# Altium footprint library switch-dil.PCBLIB: 88 footprints (part 5 of 6)
Each footprint in its own frame and in the unit in brackets; x right, y up, seen from the top. Pads: shape width x height; smd on the part's side, far side on the other; paste and mask are expansions set on the pad; w line width, h text height; cw(c..) or ccw(c..) is an arc to the next point about the centre after c.
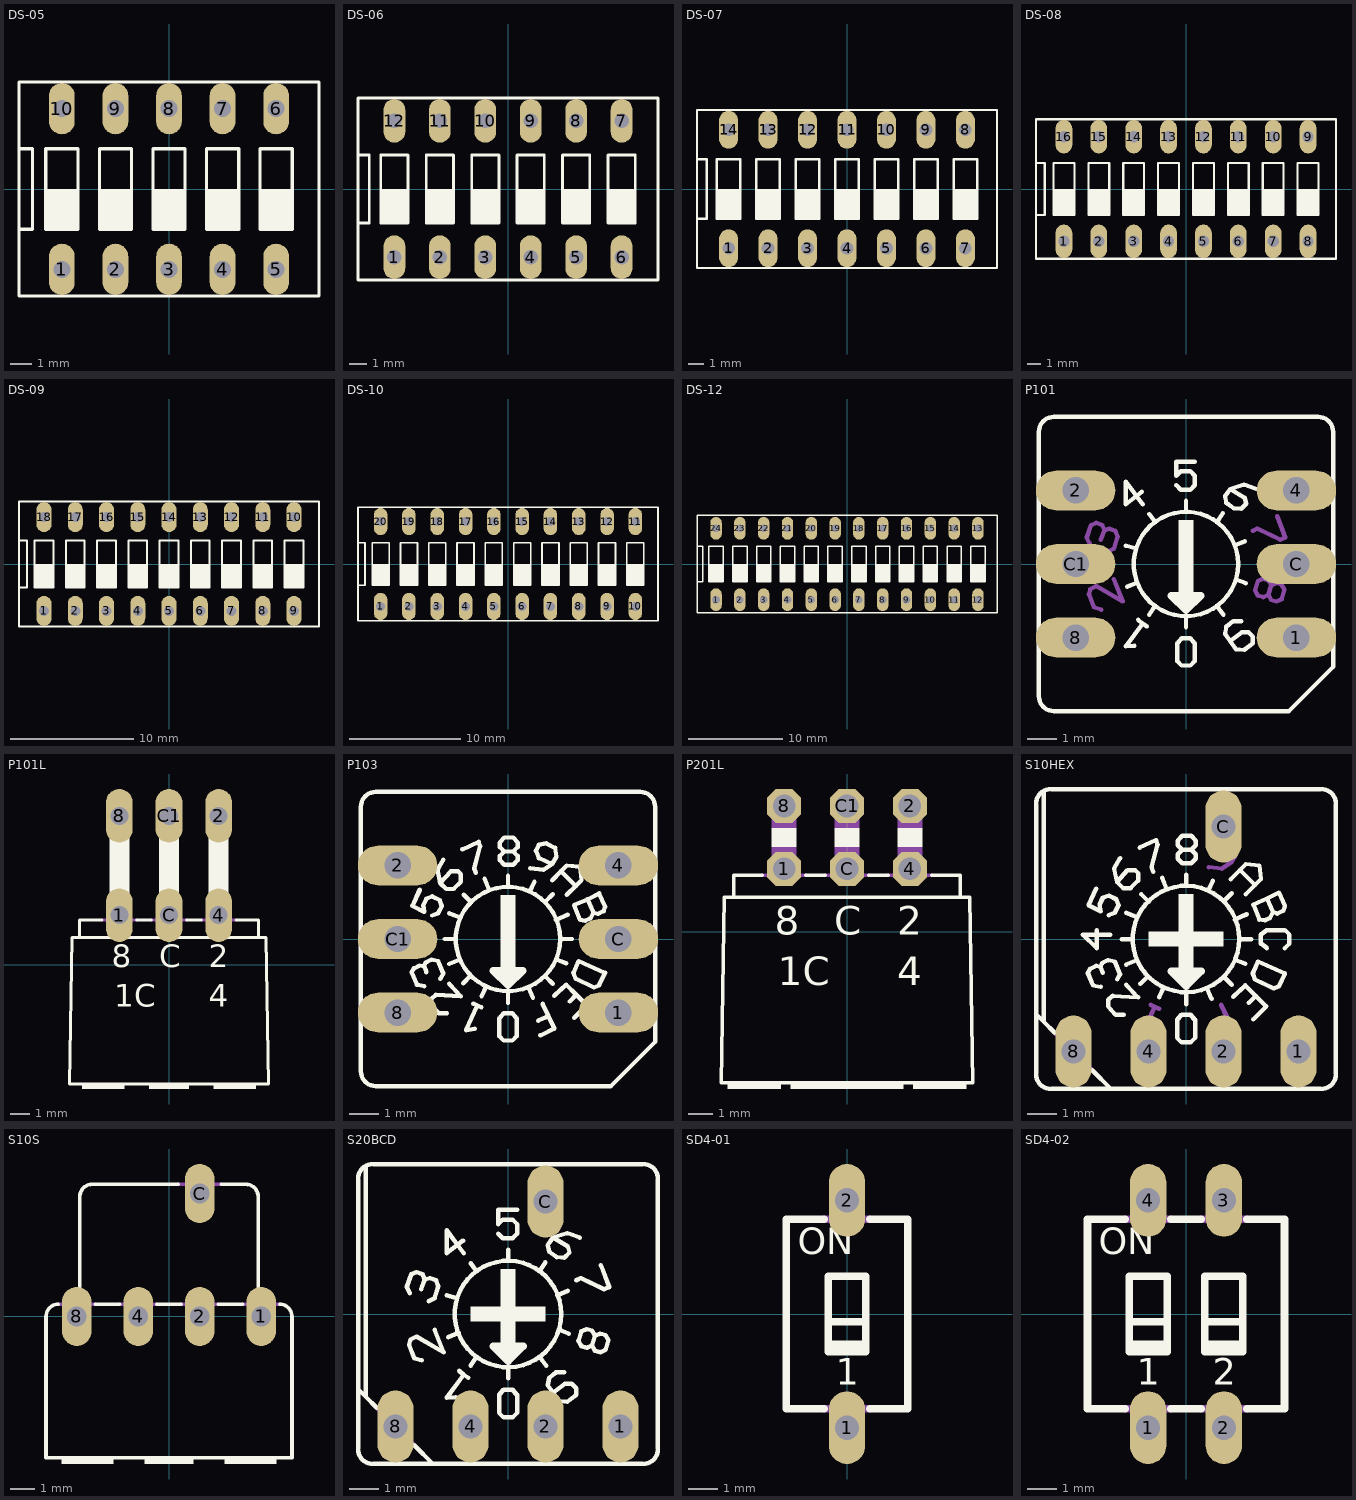
[diagram p4: the footprints below, top view; thin cyan lines are the x and y axes]

## DS-05 [mil]
pads (10):
  oval 48x96 hole 32: 1(-200,-150) 2(-100,-150) 3(0,-150) 4(100,-150) 5(200,-150) 6(200,150) 7(100,150) 8(0,150) 9(-100,150) 10(-200,150)
Top Overlay:
  rectangle: -230,-75 -170,0
  rectangle: -130,-75 -70,0
  rectangle: -30,-75 30,0
  rectangle: 70,-75 130,0
  rectangle: 170,-75 230,0
  lines w6: -280,-75 -280,75 ; -280,-75 -280,-200 280,-200 280,200 -280,200 -280,75 ; -280,-75 -255,-75 -255,75 -280,75 ; -230,-75 -230,75 -170,75 -170,-75 -230,-75 ; -130,-75 -130,75 -70,75 -70,-75 -130,-75 ; -30,-75 -30,75 30,75 30,-75 -30,-75 ; 70,-75 70,75 130,75 130,-75 70,-75 ; 170,-75 170,75 230,75 230,-75 170,-75
Mechanical 16:
  text "1" at -210,-135 h60.45
  text "2" at -120,-135 h60.45
  text "3" at -20,-135 h60.45
  text "4" at 80,-135 h60.45
  text "5" at 180,-135 h60.45
  text "ON" at -230,95 h60.45

## DS-06 [mil]
pads (12):
  oval 48x96 hole 32: 1(-250,-150) 2(-150,-150) 3(-50,-150) 4(50,-150) 5(150,-150) 6(250,-150) 7(250,150) 8(150,150) 9(50,150) 10(-50,150) 11(-150,150) 12(-250,150)
Top Overlay:
  rectangle: 220,-75 280,0
  rectangle: 120,-75 180,0
  rectangle: 20,-75 80,0
  rectangle: -80,-75 -20,0
  rectangle: -180,-75 -120,0
  rectangle: -280,-75 -220,0
  lines w6: -330,-75 -330,75 ; -330,-75 -330,-200 330,-200 330,200 -330,200 -330,75 ; -330,-75 -305,-75 -305,75 -330,75 ; -280,-75 -280,75 -220,75 -220,-75 -280,-75 ; -180,-75 -180,75 -120,75 -120,-75 -180,-75 ; -80,-75 -80,75 -20,75 -20,-75 -80,-75 ; 20,-75 20,75 80,75 80,-75 20,-75 ; 120,-75 120,75 180,75 180,-75 120,-75 ; 220,-75 220,75 280,75 280,-75 220,-75
Mechanical 16:
  text "1" at -265,-135 h60.45
  text "2" at -175,-135 h60.45
  text "3" at -75,-135 h60.45
  text "4" at 25,-135 h60.45
  text "5" at 125,-135 h60.45
  text "6" at 225,-135 h60.45
  text "ON" at -280,95 h60.45

## DS-07 [mil]
pads (14):
  oval 48x96 hole 32: 1(-300,-150) 2(-200,-150) 3(-100,-150) 4(0,-150) 5(100,-150) 6(200,-150) 7(300,-150) 8(300,150) 9(200,150) 10(100,150) 11(0,150) 12(-100,150) 13(-200,150) 14(-300,150)
Top Overlay:
  rectangle: 270,-75 330,0
  rectangle: 170,-75 230,0
  rectangle: 70,-75 130,0
  rectangle: -30,-75 30,0
  rectangle: -130,-75 -70,0
  rectangle: -230,-75 -170,0
  rectangle: -330,-75 -270,0
  lines w6: -380,-75 -380,75 ; -380,-75 -380,-200 380,-200 380,200 -380,200 -380,75 ; -380,-75 -355,-75 -355,75 -380,75 ; -330,-75 -330,75 -270,75 -270,-75 -330,-75 ; -230,-75 -230,75 -170,75 -170,-75 -230,-75 ; -130,-75 -130,75 -70,75 -70,-75 -130,-75 ; -30,-75 -30,75 30,75 30,-75 -30,-75 ; 70,-75 70,75 130,75 130,-75 70,-75 ; 170,-75 170,75 230,75 230,-75 170,-75 ; 270,-75 270,75 330,75 330,-75 270,-75
Mechanical 16:
  text "1" at -310,-135 h60.45
  text "2" at -220,-135 h60.45
  text "3" at -120,-135 h60.45
  text "4" at -20,-135 h60.45
  text "5" at 80,-135 h60.45
  text "6" at 180,-135 h60.45
  text "7" at 280,-135 h60.45
  text "ON" at -330,95 h60.45

## DS-08 [mil]
pads (16):
  oval 48x96 hole 32: 1(-350,-150) 2(-250,-150) 3(-150,-150) 4(-50,-150) 5(50,-150) 6(150,-150) 7(250,-150) 8(350,-150) 9(350,150) 10(250,150) 11(150,150) 12(50,150) 13(-50,150) 14(-150,150) 15(-250,150) 16(-350,150)
Top Overlay:
  rectangle: -380,-75 -320,0
  rectangle: -280,-75 -220,0
  rectangle: -180,-75 -120,0
  rectangle: -80,-75 -20,0
  rectangle: 20,-75 80,0
  rectangle: 120,-75 180,0
  rectangle: 220,-75 280,0
  rectangle: 320,-75 380,0
  lines w6: -430,-75 -430,75 ; -430,-75 -430,-200 430,-200 430,200 -430,200 -430,75 ; -430,-75 -405,-75 -405,75 -430,75 ; -380,-75 -380,75 -320,75 -320,-75 -380,-75 ; -280,-75 -280,75 -220,75 -220,-75 -280,-75 ; -180,-75 -180,75 -120,75 -120,-75 -180,-75 ; -80,-75 -80,75 -20,75 -20,-75 -80,-75 ; 20,-75 20,75 80,75 80,-75 20,-75 ; 120,-75 120,75 180,75 180,-75 120,-75 ; 220,-75 220,75 280,75 280,-75 220,-75 ; 320,-75 320,75 380,75 380,-75 320,-75
Mechanical 16:
  text "1" at -360,-135 h60.45
  text "2" at -270,-135 h60.45
  text "3" at -170,-135 h60.45
  text "4" at -70,-135 h60.45
  text "5" at 30,-135 h60.45
  text "6" at 130,-135 h60.45
  text "7" at 230,-135 h60.45
  text "8" at 330,-135 h60.45
  text "ON" at -380,95 h60.45

## DS-09 [mil]
pads (18):
  oval 48x96 hole 32: 1(-400,-150) 2(-300,-150) 3(-200,-150) 4(-100,-150) 5(0,-150) 6(100,-150) 7(200,-150) 8(300,-150) 9(400,-150) 10(400,150) 11(300,150) 12(200,150) 13(100,150) 14(0,150) 15(-100,150) 16(-200,150) 17(-300,150) 18(-400,150)
Top Overlay:
  rectangle: -430,-75 -370,0
  rectangle: -330,-75 -270,0
  rectangle: -230,-75 -170,0
  rectangle: -130,-75 -70,0
  rectangle: -30,-75 30,0
  rectangle: 70,-75 130,0
  rectangle: 170,-75 230,0
  rectangle: 270,-75 330,0
  rectangle: 370,-75 430,0
  lines w6: -480,-75 -480,75 ; -480,-75 -480,-200 480,-200 480,200 -480,200 -480,75 ; -480,-75 -455,-75 -455,75 -480,75 ; -430,-75 -430,75 -370,75 -370,-75 -430,-75 ; -330,-75 -330,75 -270,75 -270,-75 -330,-75 ; -230,-75 -230,75 -170,75 -170,-75 -230,-75 ; -130,-75 -130,75 -70,75 -70,-75 -130,-75 ; -30,-75 -30,75 30,75 30,-75 -30,-75 ; 70,-75 70,75 130,75 130,-75 70,-75 ; 170,-75 170,75 230,75 230,-75 170,-75 ; 270,-75 270,75 330,75 330,-75 270,-75 ; 370,-75 370,75 430,75 430,-75 370,-75
Mechanical 16:
  text "1" at -410,-135 h60.45
  text "2" at -320,-135 h60.45
  text "3" at -220,-135 h60.45
  text "4" at -120,-135 h60.45
  text "5" at -20,-135 h60.45
  text "6" at 80,-135 h60.45
  text "7" at 180,-135 h60.45
  text "8" at 280,-135 h60.45
  text "9" at 380,-135 h60.45
  text "ON" at -430,95 h60.45

## DS-10 [mil]
pads (20):
  oval 48x96 hole 32: 1(-450,-150) 2(-350,-150) 3(-250,-150) 4(-150,-150) 5(-50,-150) 6(50,-150) 7(150,-150) 8(250,-150) 9(350,-150) 10(450,-150) 11(450,150) 12(350,150) 13(250,150) 14(150,150) 15(50,150) 16(-50,150) 17(-150,150) 18(-250,150) 19(-350,150) 20(-450,150)
Top Overlay:
  rectangle: -480,-75 -420,0
  rectangle: -380,-75 -320,0
  rectangle: -280,-75 -220,0
  rectangle: -180,-75 -120,0
  rectangle: -80,-75 -20,0
  rectangle: 20,-75 80,0
  rectangle: 120,-75 180,0
  rectangle: 220,-75 280,0
  rectangle: 320,-75 380,0
  rectangle: 420,-75 480,0
  lines w6: -530,-75 -530,75 ; -530,-75 -530,-200 530,-200 530,200 -530,200 -530,75 ; -530,-75 -505,-75 -505,75 -530,75 ; -480,-75 -480,75 -420,75 -420,-75 -480,-75 ; -380,-75 -380,75 -320,75 -320,-75 -380,-75 ; -280,-75 -280,75 -220,75 -220,-75 -280,-75 ; -180,-75 -180,75 -120,75 -120,-75 -180,-75 ; -80,-75 -80,75 -20,75 -20,-75 -80,-75 ; 20,-75 20,75 80,75 80,-75 20,-75 ; 120,-75 120,75 180,75 180,-75 120,-75 ; 220,-75 220,75 280,75 280,-75 220,-75 ; 320,-75 320,75 380,75 380,-75 320,-75 ; 420,-75 420,75 480,75 480,-75 420,-75
Mechanical 16:
  text "1" at -460,-135 h60.45
  text "2" at -370,-135 h60.45
  text "3" at -270,-135 h60.45
  text "4" at -170,-135 h60.45
  text "5" at -70,-135 h60.45
  text "6" at 30,-135 h60.45
  text "7" at 130,-135 h60.45
  text "8" at 230,-135 h60.45
  text "9" at 330,-135 h60.45
  text "10" at 405,-135 h60.45
  text "ON" at -480,95 h60.45

## DS-12 [mil]
pads (24):
  oval 48x96 hole 32: 1(-550,-150) 2(-450,-150) 3(-350,-150) 4(-250,-150) 5(-150,-150) 6(-50,-150) 7(50,-150) 8(150,-150) 9(250,-150) 10(350,-150) 11(450,-150) 12(550,-150) 13(550,150) 14(450,150) 15(350,150) 16(250,150) 17(150,150) 18(50,150) 19(-50,150) 20(-150,150) 21(-250,150) 22(-350,150) 23(-450,150) 24(-550,150)
Top Overlay:
  rectangle: -580,-75 -520,0
  rectangle: -480,-75 -420,0
  rectangle: -380,-75 -320,0
  rectangle: -280,-75 -220,0
  rectangle: -180,-75 -120,0
  rectangle: -80,-75 -20,0
  rectangle: 20,-75 80,0
  rectangle: 120,-75 180,0
  rectangle: 220,-75 280,0
  rectangle: 320,-75 380,0
  rectangle: 420,-75 480,0
  rectangle: 520,-75 580,0
  lines w6: -630,-75 -630,75 ; -630,-75 -630,-205 630,-205 630,205 -630,205 -630,75 ; -630,-75 -605,-75 -605,75 -630,75 ; -580,-75 -580,75 -520,75 -520,-75 -580,-75 ; -480,-75 -480,75 -420,75 -420,-75 -480,-75 ; -380,-75 -380,75 -320,75 -320,-75 -380,-75 ; -280,-75 -280,75 -220,75 -220,-75 -280,-75 ; -180,-75 -180,75 -120,75 -120,-75 -180,-75 ; -80,-75 -80,75 -20,75 -20,-75 -80,-75 ; 20,-75 20,75 80,75 80,-75 20,-75 ; 120,-75 120,75 180,75 180,-75 120,-75 ; 220,-75 220,75 280,75 280,-75 220,-75 ; 320,-75 320,75 380,75 380,-75 320,-75 ; 420,-75 420,75 480,75 480,-75 420,-75 ; 520,-75 520,75 580,75 580,-75 520,-75
Mechanical 16:
  text "1" at -555,-135 h60.45
  text "2" at -465,-135 h60.45
  text "3" at -365,-135 h60.45
  text "4" at -265,-135 h60.45
  text "5" at -165,-135 h60.45
  text "6" at -65,-135 h60.45
  text "7" at 35,-135 h60.45
  text "8" at 135,-135 h60.45
  text "9" at 235,-135 h60.45
  text "10" at 310,-135 h60.45
  text "11" at 425,-135 h60.45
  text "12" at 510,-135 h60.45
  text "ON" at -580,95 h60.45

## P101 [mil]
pads (6):
  oval 108x54 hole 36: 1(150,-100) 2(-150,100) 4(150,100) 8(-150,-100) C(150,0) C1(-150,0)
Top Overlay:
  circle w6: c0,0 r71
  rectangle: -10,-40 10,60
  lines w6: -82,25 -68,21 ; -80,-31 -66,-25 ; -70,-111 -82,-112 -59,-81 ; -65,-76 -59,-81 ; -60,98 -82,81 -82,112 -59,81 ; -53,-85 -59,-81 ; -50,-69 -42,-57 ; -50,68 -42,57 ; -13,107 -7,101 6,101 12,107 12,120 6,126 -7,126 -13,120 -13,139 12,139 ; 0,-86 0,-72 ; 0,71 0,86 ; 42,-57 51,-69 ; 42,57 50,69 ; 66,25 80,31 ; 68,-21 81,-26 ; 75,-78 64,-78 55,-85 53,-95 60,-105 ; 96,102 79,108 60,102 ; 60,-105 76,-93 85,-93 91,-99 91,-108 79,-117 68,-116 60,-105 ; 60,102 80,90 82,82 75,75 65,76 55,83 53,92 60,102 ; -200,-180 ccw(c-180,-180) -180,-200 140,-200 200,-140 200,180 ccw(c180,180) 180,200 -180,200 ccw(c-180,180) -200,180 -200,-180 ; -12,-132 -12,-108 -6,-101 6,-101 12,-108 12,-132 6,-138 -6,-138 -12,-132
  lines w10: -10,-48 10,-48 ; 0,-58 0,-53 ; -20,-43 0,-63 20,-43 -20,-43
Mechanical 16:
  lines w6: -131,28 -135,36 -129,53 -122,56 -114,53 -111,46 ; -116,33 -111,46 ; -115,-62 -125,-59 -132,-41 -130,-34 -122,-30 -86,-51 -98,-21 ; -106,17 -98,21 -93,37 -96,45 -104,48 -111,46 ; 91,45 97,48 128,33 135,36 124,65 ; 112,-42 116,-29 ; 112,-42 105,-45 98,-43 94,-36 98,-23 105,-20 112,-22 116,-29 ; 112,-42 116,-49 123,-51 130,-48 134,-35 130,-28 123,-26 116,-29

## P101L [mil]
pads (6):
  oval 54x108 hole 36: 1(-100,100) 2(100,300) 4(100,100) 8(-100,300) C(0,100) C1(0,300)
Top Overlay:
  rectangle: -175,-250 -90,-240
  rectangle: 90,-250 175,-240
  rectangle: -40,-250 40,-240
  rectangle: -20,135 20,265
  rectangle: 80,135 120,265
  rectangle: -120,135 -80,265
  lines w6: -135,90 -180,90 -180,55 ; -65,90 -35,90 ; 35,90 65,90 ; 135,90 180,90 180,55 ; -180,55 -195,55 -200,-240 200,-240 195,55 180,55 ; -180,55 180,55
  text "1" at -110,-100 h77.5
  text "4" at 80,-100 h77.5
  text "8" at -115,-20 h77.5
  text "C" at -20,-20 h77.5
  text "2" at 80,-20 h77.5
  text "C" at -70,-100 h77.5
Mechanical 16:
  rectangle: -20,90 20,135
  rectangle: -20,265 20,305
  rectangle: 80,90 120,135
  rectangle: 80,265 120,305
  rectangle: -120,90 -80,135
  rectangle: -120,265 -80,305
  lines w6: -135,90 -65,90 ; -35,90 35,90 ; 65,90 135,90

## P103 [mil]
pads (6):
  oval 108x54 hole 36: 1(150,-100) 2(-150,100) 4(150,100) 8(-150,-100) C(150,0) C1(-150,0)
Top Overlay:
  circle w6: c0,0 r71
  rectangle: -10,-40 10,60
  lines w6: -120,67 -130,45 -114,37 -115,46 -111,55 -103,58 -93,53 -90,45 -95,35 -103,32 ; -114,-64 -124,-62 -131,-45 -128,-40 -120,-36 -114,-37 ; -111,-45 -114,-37 ; -92,-54 -88,-47 -95,-30 -104,-28 -112,-32 -114,-37 ; -88,108 -96,94 -92,76 ; -86,0 -71,0 ; -83,-101 -94,-101 -104,-90 -104,-81 -98,-76 -64,-78 -80,-61 ; -80,-34 -65,-28 ; -80,35 -65,29 ; -62,122 -40,132 -38,126 -46,96 -44,90 ; -61,-60 -51,-50 ; -60,60 -50,50 ; -47,-88 -36,-93 ; -45,-122 -57,-124 -42,-91 ; -36,-78 -30,-65 ; -32,82 -26,67 ; 0,-87 0,-72 ; 0,71 0,86 ; 28,-66 34,-80 ; 30,65 36,78 ; 30,96 48,94 60,102 ; 41,-111 55,-105 ; 44,-131 63,-122 55,-105 ; 47,-88 55,-105 ; 51,-51 61,-61 ; 51,51 61,61 ; 60,80 72,92 ; 63,-77 79,-62 93,-76 ; 65,26 81,33 ; 66,-28 79,-33 ; 72,0 87,0 ; 80,60 92,72 ; 84,-85 93,-76 ; 90,-107 107,-90 93,-76 ; -92,76 -78,92 -68,92 -64,88 -64,78 -74,68 -84,68 -92,76 ; -5,119 -11,125 -11,131 -5,138 7,138 13,131 13,125 7,119 ; -5,119 -11,113 -11,107 -5,101 7,101 13,107 13,113 7,119 ; -5,119 7,119 ; 60,102 42,110 38,120 42,128 52,130 64,124 66,112 60,102 ; 72,92 92,72 ; 72,92 80,100 98,98 100,80 92,72 ; 108,54 90,46 98,26 105,25 112,28 116,36 ; 108,54 116,36 ; 108,54 124,62 132,44 130,38 122,34 116,36 ; -200,-180 ccw(c-180,-180) -180,-200 140,-200 200,-140 200,180 ccw(c180,180) 180,200 -180,200 ccw(c-180,180) -200,180 -200,-180 ; -12,-132 -12,-108 -6,-101 6,-101 12,-108 12,-132 6,-138 -6,-138 -12,-132 ; 89,-46 96,-30 132,-46 124,-63 117,-66 92,-54 89,-46
  lines w10: -10,-48 10,-48 ; 0,-58 0,-53 ; -20,-43 0,-63 20,-43 -20,-43
Mechanical 16:
  lines w6: -119,12 -119,-12 -138,6 -101,6 ; 108,-12 100,-6 100,6 108,12 132,12 138,6 138,-6 132,-12

## P201L [mil]
pads (6):
  oct 54x54 hole 36: 1(-100,100) 2(100,200) 4(100,100) 8(-100,200) C(0,100) C1(0,200)
Top Overlay:
  rectangle: -190,-250 -105,-240
  rectangle: 105,-250 190,-240
  rectangle: -120,135 -80,165
  rectangle: -20,135 20,165
  rectangle: 80,135 120,165
  rectangle: -90,-250 90,-240
  lines w6: -135,90 -180,90 -180,55 ; -65,90 -35,90 ; 35,90 65,90 ; 135,90 180,90 180,55 ; -180,55 -195,55 -200,-240 200,-240 195,55 180,55 ; -180,55 180,55
  text "1" at -110,-100 h77.5
  text "4" at 80,-100 h77.5
  text "8" at -115,-20 h77.5
  text "C" at -20,-20 h77.5
  text "2" at 80,-20 h77.5
  text "C" at -70,-100 h77.5
Mechanical 16:
  rectangle: -20,90 20,135
  rectangle: -20,165 20,205
  rectangle: 80,90 120,135
  rectangle: 80,165 120,205
  rectangle: -120,90 -80,135
  rectangle: -120,165 -80,205
  lines w6: -135,90 -65,90 ; -35,90 35,90 ; 65,90 135,90

## S10HEX [mil]
pads (5):
  oval 48x96 hole 32: 1(150,-150) 2(50,-150) 4(-50,-150) 8(-150,-150) C(50,150)
Top Overlay:
  circle w6: c0,0 r71
  rectangle: -10,-40 10,60
  rectangle: -50,-10 50,10
  lines w6: -190,195 -190,-110 ; -175,-125 -190,-110 ; -125,-175 -100,-200 ; -120,67 -130,45 -114,37 -115,46 -111,55 -103,58 -93,53 -90,45 -95,35 -103,32 ; -119,12 -119,-12 -138,6 -101,6 ; -114,-64 -124,-62 -131,-45 -128,-40 -120,-36 -114,-37 ; -111,-45 -114,-37 ; -92,-54 -88,-47 -95,-30 -104,-28 -112,-32 -114,-37 ; -88,108 -96,94 -92,76 ; -86,0 -71,0 ; -83,-101 -94,-101 -104,-90 -104,-81 -98,-76 -64,-78 -80,-61 ; -80,-34 -65,-28 ; -80,35 -65,29 ; -62,122 -40,132 -38,126 -46,96 -44,90 ; -61,-60 -51,-50 ; -60,60 -50,50 ; -36,-78 -30,-65 ; -32,82 -26,67 ; 0,-87 0,-72 ; 0,71 0,86 ; 28,-66 34,-80 ; 30,65 36,78 ; 51,-51 61,-61 ; 51,51 61,61 ; 60,80 72,92 ; 63,-77 79,-62 93,-76 ; 65,26 81,33 ; 66,-28 79,-33 ; 72,0 87,0 ; 80,60 92,72 ; 84,-85 93,-76 ; 90,-107 107,-90 93,-76 ; 108,-12 100,-6 100,6 108,12 132,12 138,6 138,-6 132,-12 ; -200,-100 -200,-180 ccw(c-180,-180) -180,-200 -100,-200 ; -200,-100 -200,180 cw(c-180,180) -180,200 180,200 cw(c180,180) 200,180 200,-180 cw(c180,-180) 180,-200 -100,-200 ; -200,-100 -190,-110 ; -92,76 -78,92 -68,92 -64,88 -64,78 -74,68 -84,68 -92,76 ; -5,119 -11,125 -11,131 -5,138 7,138 13,131 13,125 7,119 ; -5,119 -11,113 -11,107 -5,101 7,101 13,107 13,113 7,119 ; -5,119 7,119 ; 72,92 92,72 ; 72,92 80,100 98,98 100,80 92,72 ; 108,54 90,46 98,26 105,25 112,28 116,36 ; 108,54 116,36 ; 108,54 124,62 132,44 130,38 122,34 116,36 ; -12,-132 -12,-108 -6,-101 6,-101 12,-108 12,-132 6,-138 -6,-138 -12,-132 ; 89,-46 96,-30 132,-46 124,-63 117,-66 92,-54 89,-46
  lines w10: -10,-48 10,-48 ; 0,-58 0,-53 ; -20,-43 0,-63 20,-43 -20,-43
Mechanical 16:
  lines w6: -175,-125 -125,-175 ; -47,-88 -36,-93 ; -45,-122 -57,-124 -42,-91 ; 30,96 48,94 60,102 ; 41,-111 55,-105 ; 44,-131 63,-122 55,-105 ; 47,-88 55,-105 ; 60,102 42,110 38,120 42,128 52,130 64,124 66,112 60,102

## S10S [mil]
pads (5):
  oval 48x96 hole 32: 1(150,0) 2(50,0) 4(-50,0) 8(-150,0) C(50,200)
Top Overlay:
  rectangle: -175,-240 -90,-230
  rectangle: 90,-240 175,-230
  rectangle: -40,-240 40,-230
  lines w6: -180,20 ccw(c-180,0) -200,0 -200,-230 200,-230 200,0 ccw(c180,0) 180,20 ; -145,40 -145,195 cw(c-125,195) -125,215 15,215 ; -120,20 -80,20 ; -20,20 20,20 ; 80,20 120,20 ; 85,215 125,215 cw(c125,195) 145,195 145,40
Mechanical 16:
  lines w6: -180,20 -120,20 ; -165,20 ccw(c-165,40) -145,40 ; -80,20 -20,20 ; 15,215 85,215 ; 20,20 80,20 ; 120,20 180,20 ; 145,40 ccw(c165,40) 165,20

## S20BCD [mil]
pads (5):
  oval 48x96 hole 32: 1(150,-150) 2(50,-150) 4(-50,-150) 8(-150,-150) C(50,150)
Top Overlay:
  circle w6: c0,0 r71
  rectangle: -10,-40 10,60
  rectangle: -50,-10 50,10
  lines w6: -190,195 -190,-110 ; -175,-125 -190,-110 ; -131,28 -135,36 -129,53 -122,56 -114,53 -111,46 ; -125,-175 -100,-200 ; -116,33 -111,46 ; -115,-62 -125,-59 -132,-41 -130,-34 -122,-30 -86,-51 -98,-21 ; -106,17 -98,21 -93,37 -96,45 -104,48 -111,46 ; -82,25 -68,21 ; -80,-31 -66,-25 ; -70,-111 -82,-112 -59,-81 ; -65,-76 -59,-81 ; -60,98 -82,81 -82,112 -59,81 ; -53,-85 -59,-81 ; -50,-69 -42,-57 ; -50,68 -42,57 ; -13,107 -7,101 6,101 12,107 12,120 6,126 -7,126 -13,120 -13,139 12,139 ; 0,-86 0,-72 ; 0,71 0,86 ; 42,-57 51,-69 ; 42,57 50,69 ; 66,25 80,31 ; 68,-21 81,-26 ; 75,-78 64,-78 55,-85 53,-95 60,-105 ; 91,45 97,48 128,33 135,36 124,65 ; 96,102 79,108 60,102 ; -200,-100 -200,-180 ccw(c-180,-180) -180,-200 -100,-200 ; -200,-100 -200,180 cw(c-180,180) -180,200 180,200 cw(c180,180) 200,180 200,-180 cw(c180,-180) 180,-200 -100,-200 ; -200,-100 -190,-110 ; 60,-105 76,-93 85,-93 91,-99 91,-108 79,-117 68,-116 60,-105 ; 60,102 80,90 82,82 75,75 65,76 55,83 53,92 60,102 ; 112,-42 116,-29 ; 112,-42 105,-45 98,-43 94,-36 98,-23 105,-20 112,-22 116,-29 ; 112,-42 116,-49 123,-51 130,-48 134,-35 130,-28 123,-26 116,-29 ; -12,-132 -12,-108 -6,-101 6,-101 12,-108 12,-132 6,-138 -6,-138 -12,-132
  lines w10: -10,-48 10,-48 ; 0,-58 0,-53 ; -20,-43 0,-63 20,-43 -20,-43
Mechanical 16:
  lines w6: -175,-125 -125,-175

## SD4-01 [mil]
pads (2):
  oval 48x96 hole 32: 1(0,-150) 2(0,150)
Top Overlay:
  lines w10: -30,-125 -80,-125 -80,125 -30,125 ; -20,-40 20,-40 ; -20,-10 20,-10 ; 30,-125 80,-125 80,125 30,125 ; -25,-50 25,-50 25,50 -25,50 -25,-50
  text "1" at -15,-105 h60.45
  text "ON" at -65,67 h60.45
Mechanical 16:
  rectangle: -15,-155 15,-125
  rectangle: -15,125 15,155
  lines w10: -30,-125 30,-125 ; -30,125 30,125

## SD4-02 [mil]
pads (4):
  oval 48x96 hole 32: 1(-50,-150) 2(50,-150) 3(50,150) 4(-50,150)
Top Overlay:
  lines w10: -80,-125 -130,-125 -130,125 -80,125 ; -70,-40 -30,-40 ; -70,-10 -30,-10 ; -20,-125 20,-125 ; -20,125 20,125 ; 30,-40 70,-40 ; 30,-10 70,-10 ; 80,-125 130,-125 130,125 80,125 ; -75,-50 -25,-50 -25,50 -75,50 -75,-50 ; 25,-50 75,-50 75,50 25,50 25,-50
  text "1" at -65,-105 h60.45
  text "2" at 35,-105 h60.45
  text "ON" at -115,67 h60.45
Mechanical 16:
  rectangle: -65,125 -35,155
  rectangle: 35,125 65,155
  rectangle: -65,-155 -35,-125
  rectangle: 35,-155 65,-125
  lines w10: -80,-125 -20,-125 ; -80,125 -20,125 ; 20,-125 80,-125 ; 20,125 80,125